# Altium footprint library zbook-rf-shields-LORA-P1.PcbLib: 26 footprints (part 1 of 2)
Each footprint in its own frame and in the unit in brackets; x right, y up, seen from the top. Pads: shape width x height; smd on the part's side, far side on the other; paste and mask are expansions set on the pad; w line width, h text height; cw(c..) or ccw(c..) is an arc to the next point about the centre after c.
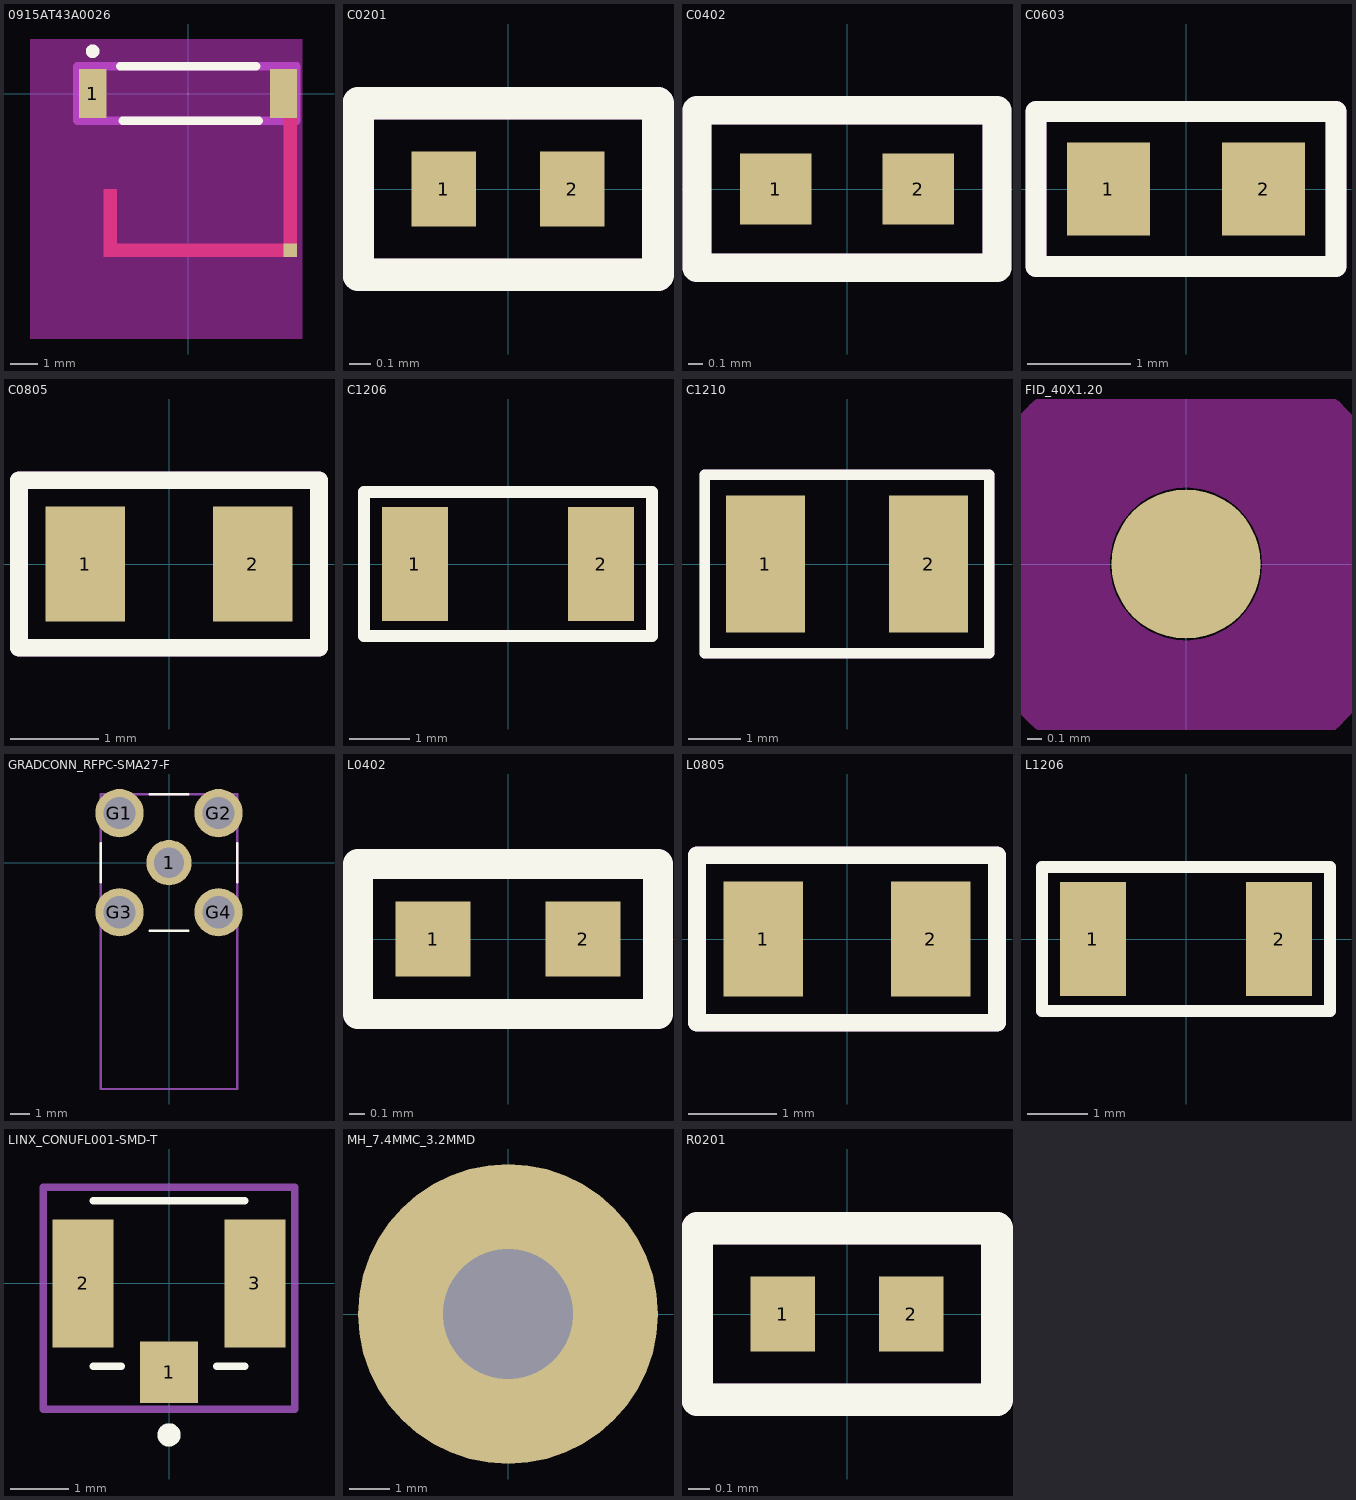
[diagram p0: the footprints below, top view; thin cyan lines are the x and y axes]

## 0915AT43A0026 [mm]
pads (3):
  rect 1x1.8 smd: 1(-3.5,0) ""(3.5,0)
  rect 0.5x0.5 smd paste-2539.97 mask+0: ""(3.75,-5.75)
Top Layer:
  rectangle: -3.1,-6 -2.6,-5.5
  rectangle: -3.1,-4 -2.6,-3.5
  lines w0.5: -2.85,-3.75 -2.85,-5.75 3.75,-5.75 3.75,-0.9
Top Overlay:
  circle w0.3: c-3.5,1.55 r0.1
  lines w0.3: -2.5,1 2.5,1 ; -2.4,-1 2.6,-1
Keep-Out Layer:
  rectangle: -5.8,-9 4.2,2
Mechanical 29:
  circle w0.4: c-3.325,0.25 r0.1
  lines w0.3: -4.075,-1 3.975,-1 3.975,1 -4.075,1 -4.075,-1
  text "'.Designator'" at -2.7,-0.4 h0.85
3D body "0915AT43A0026.step": height 0.9, standoff 0, extent -3.6,-1.1 3.6,1.1

## C0201 [mm]
pads (2):
  rect 0.3x0.35 smd mask+0.06: 1(-0.3,0) 2(0.3,0)
Top Overlay:
  lines w0.15: -0.7,-0.4 -0.7,0.4 0.7,0.4 0.7,-0.4 -0.7,-0.4
Mechanical 29:
  lines w0.15: -0.7,-0.4 0.7,-0.4 0.7,0.4 -0.7,0.4 -0.7,-0.4
  text "'.Designator'" at -0.4,-0.1 h0.2
3D body "C0201.step": height 0.3, standoff 0, extent -0.3,-0.15 0.3,0.15

## C0402 [mm]
pads (2):
  rect 0.5x0.5 smd: 1(-0.5,0) 2(0.5,0)
Top Overlay:
  lines w0.2: -1.05,-0.55 1.05,-0.55 1.05,0.55 -1.05,0.55 -1.05,-0.55
Mechanical 29:
  lines w0.2: -1.05,-0.55 -1.05,0.55 1.05,0.55 1.05,-0.55 -1.05,-0.55
  text "'.Designator'" at -0.717,-0.25 h0.5
3D body "C0402.step": height 0.51, standoff 0.01, extent -0.5,-0.25 0.5,0.25

## C0603 [mm]
pads (2):
  rect 0.8x0.9 smd: 1(-0.75,0) 2(0.75,0)
Top Overlay:
  lines w0.2: -1.45,-0.75 1.45,-0.75 1.45,0.75 -1.45,0.75 -1.45,-0.75
Mechanical 29:
  lines w0.2: -1.45,-0.75 1.45,-0.75 1.45,0.75 -1.45,0.75 -1.45,-0.75
  text "'.Designator'" at -0.7,-0.3 h0.6
3D body "C0603.step": height 0.81, standoff 0.01, extent -0.8,-0.43 0.8,0.43

## C0805 [mm]
pads (2):
  rect 0.9x1.3 smd: 1(-0.95,0) 2(0.95,0)
Top Overlay:
  lines w0.2: -1.7,-0.95 1.7,-0.95 1.7,0.95 -1.7,0.95 -1.7,-0.95
Mechanical 29:
  lines w0.2: -1.7,-0.95 -1.7,0.95 1.7,0.95 1.7,-0.95 -1.7,-0.95
  text "'.Designator'" at -1.2,-0.4 h0.85
3D body "C0805.step": height 1, standoff 0, extent -1,-0.625 1,0.625

## C1206 [mm] "Chip Capacitor, 2-Leads, Body 3.20x1.60mm, IPC Medium Density"
height 0.95
pads (2):
  rect 1.1x1.9 smd: 1(-1.55,0) 2(1.55,0)
Top Overlay:
  lines w0.2: -2.4,-1.2 -2.4,1.2 2.4,1.2 2.4,-1.2 -2.4,-1.2
Mechanical 29:
  lines w0.2: -2.4,-1.2 2.4,-1.2 2.4,1.2 -2.4,1.2 -2.4,-1.2
  text "'.Designator'" at -1.4,-0.5 h1
3D body "C1206.step": height 0.95, standoff 0, extent -1.7,-0.9 1.7,0.9

## C1210 [mm]
pads (2):
  rect 1.5x2.6 smd: 1(-1.55,0) 2(1.55,0)
Top Overlay:
  lines w0.2: -2.7,-1.7 2.7,-1.7 2.7,1.7 -2.7,1.7 -2.7,-1.7
Mechanical 29:
  lines w0.2: -2.7,-1.7 -2.7,1.7 2.7,1.7 2.7,-1.7 -2.7,-1.7
  text "'.Designator'" at -1.4,-0.6 h1.2
3D body "C1210.step": height 1.8, standoff 0, extent -1.6,-1.25 1.6,1.25

## FID_40X1.20 [mil]
pads (1):
  round 40 smd paste-40 mask+40: ""(0,0)
Top Layer keep-out:
  circle w39.37: c0,0 r40.16

## GRADCONN_RFPC-SMA27-F [mm]
height 10.3
pads (5):
  round 2.325 hole 1.55: 1(0,0)
  round 2.475 hole 1.65: G1(-2.54,2.54) G2(2.54,2.54) G3(-2.54,-2.54) G4(2.54,-2.54)
Top Overlay:
  lines w0.127: -3.5,-1 -3.5,1 ; -1,-3.5 1,-3.5 ; -1,3.5 1,3.5 ; 3.5,-1 3.5,1
Mechanical 29:
  circle w0.254: c0,0 r0.18
  lines w0.127: -3.5,-11.6 3.5,-11.6 3.5,-3.5 3.5,3.5 -3.5,3.5 -3.5,-3.5 -3.5,-11.6
  text "'.Designator'" at -0.381,1.27 h0.5
3D body "RFPC-SMA27-F--3DModel-STEP-269445.STEP": height 10, standoff -4, extent -3.5,-11.473 3.5,3.627

## L0402 [mm]
pads (2):
  rect 0.5x0.5 smd: 1(-0.5,0) 2(0.5,0)
Top Overlay:
  lines w0.2: -1,-0.5 1,-0.5 1,0.5 -1,0.5 -1,-0.5
Mechanical 29:
  lines w0.2: -1,-0.5 -1,0.5 1,0.5 1,-0.5 -1,-0.5
  text "'.Designator'" at -0.75,-0.169 h0.5
3D body "L0805.step": height 0.51, standoff 0.01, extent -0.5,-0.3 0.5,0.3

## L0805 [mm]
pads (2):
  rect 0.9x1.3 smd: 1(-0.95,0) 2(0.95,0)
Top Overlay:
  lines w0.2: -1.7,-0.95 -1.7,0.95 1.7,0.95 1.7,-0.95 -1.7,-0.95
Mechanical 29:
  lines w0.2: -1.7,-0.95 1.7,-0.95 1.7,0.95 -1.7,0.95 -1.7,-0.95
  text "'.Designator'" at -1.3,-0.4 h0.85
3D body "L0805.step": height 1.05, standoff 0, extent -1,-0.625 1,0.625

## L1206 [mm] "Chip Capacitor, 2-Leads, Body 3.20x1.60mm, IPC Medium Density"
height 0.95
pads (2):
  rect 1.1x1.9 smd: 1(-1.55,0) 2(1.55,0)
Top Overlay:
  lines w0.2: -2.4,-1.2 2.4,-1.2 2.4,1.2 -2.4,1.2 -2.4,-1.2
Mechanical 29:
  lines w0.2: -2.4,-1.2 -2.4,1.2 2.4,1.2 2.4,-1.2 -2.4,-1.2
  text "'.Designator'" at -1.4,-0.5 h1
3D body "L1206.step": height 1.1, standoff 0, extent -1.7,-0.9 1.7,0.9

## LINX_CONUFL001-SMD-T [mm]
pads (3):
  rect 1x1.05 smd: 1(0,-1.525)
  rect 1.05x2.2 smd: 2(-1.475,0) 3(1.475,0)
Top Overlay:
  circle w0.2: c0,-2.6 r0.1
  lines w0.127: -1.3,-1.42 -0.82,-1.42 ; -1.3,1.42 1.3,1.42 ; 0.82,-1.42 1.3,-1.42
Mechanical 29:
  circle w0.2: c0,-1.524 r0.1
  lines w0.127: -2.159,-2.159 -2.159,1.651 2.159,1.651 2.159,-2.159 -2.159,-2.159
  text "'.Designator'" at -0.369,-0.042 h0.5
3D body "step_temp.STEP": height 1.31, standoff 0.01, extent -1.5,-1.804 1.5,1.296

## LoRa_ANT [mm]

## MH_7.4MMC_3.2MMD [mm]
pads (1):
  round 7.4 hole 3.2: ""(0,0)

## R0201 [mm]
pads (2):
  rect 0.3x0.35 smd mask+0.06: 1(-0.3,0) 2(0.3,0)
Top Overlay:
  lines w0.15: -0.7,-0.4 -0.7,0.4 0.7,0.4 0.7,-0.4 -0.7,-0.4
Mechanical 29:
  lines w0.15: -0.7,-0.4 0.7,-0.4 0.7,0.4 -0.7,0.4 -0.7,-0.4
  text "'.Designator'" at -0.4,-0.1 h0.2
3D body "C0201.step": height 0.3, standoff 0, extent -0.3,-0.15 0.3,0.15